# Altium integrated library Motorola RF and IF Radio Receiver Circuit.IntLib: 7 symbols
Pins are listed as number, name and electrical type; pins without a type are passive.

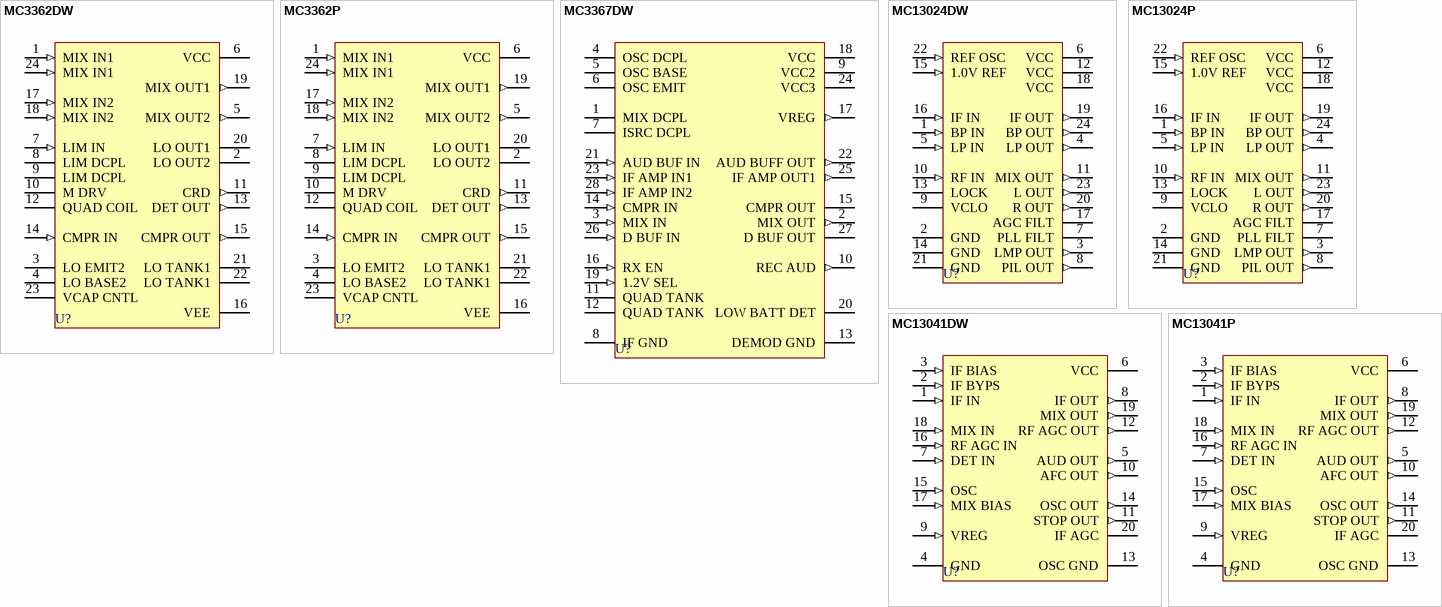
[diagram p0: symbols MC3362DW to MC13041P]

## MC3362DW
designator U?
Low-Power Dual Conversion FM Receiver; Published: 17-Jul-2002; LatestRevisionDate: 13-Apr-2006; LatestRevisionNote: IPC-7351 Footprint Added.; DatasheetVersion: 1988; PackageReference: 751E-02; Publisher: Altium Limited; PackageDescription: 24-Pin Small Outline Integrated Circuit 1.27 mm Pitch; Code_IPC: SOIC127P1047-24
footprint 751E-02_N (SOIC, 24-Leads, Body 15.4x7.5mm, Pitch 1.27mm, IPC Medium Density)
footprint 751E-02_L (SOIC, 24-Leads, Body 15.4x7.5mm, Pitch 1.27mm, IPC High Density)
footprint 751E-02_M (SOIC, 24-Leads, Body 15.4x7.5mm, Pitch 1.27mm, IPC Low Density)
3D model 751E-02 (24-Pin Small Outline Integrated Circuit 1.27 mm Pitch)
pins: 1 MIX IN1 (in), 2 LO OUT2 (oe), 3 LO EMIT2 (oe), 4 LO BASE2, 5 MIX OUT2 (out), 6 VCC (power), 7 LIM IN (in), 8 LIM DCPL, 9 LIM DCPL, 10 M DRV, 11 CRD (out), 12 QUAD COIL, 13 DET OUT (out), 14 CMPR IN (in), 15 CMPR OUT (out), 16 VEE (power), 17 MIX IN2 (in), 18 MIX IN2 (in), 19 MIX OUT1 (out), 20 LO OUT1 (oe), 21 LO TANK1, 22 LO TANK1, 23 VCAP CNTL, 24 MIX IN1 (in)

## MC3362P
designator U?
Low-Power Dual Conversion FM Receiver; Published: 17-Jul-2002; LatestRevisionDate: 06-Jun-2005; LatestRevisionNote: Stylized 3D Model Added.; DatasheetVersion: 1988; PackageReference: 724-02; Publisher: Altium Limited; PackageDescription: DIP; 24 Leads; Row Spacing 7.62 mm; Pitch 2.54 mm; Code_JEDEC: MS-001-AF
footprint 724-02 (DIP; 24 Leads; Row Spacing 7.62 mm; Pitch 2.54 mm)
3D model 724-03 (DIP; 24 Leads; Row Spacing 7.62 mm; Pitch 2.54 mm)
pins: 1 MIX IN1 (in), 2 LO OUT2 (oe), 3 LO EMIT2 (oe), 4 LO BASE2, 5 MIX OUT2 (out), 6 VCC (power), 7 LIM IN (in), 8 LIM DCPL, 9 LIM DCPL, 10 M DRV, 11 CRD (out), 12 QUAD COIL, 13 DET OUT (out), 14 CMPR IN (in), 15 CMPR OUT (out), 16 VEE (power), 17 MIX IN2 (in), 18 MIX IN2 (in), 19 MIX OUT1 (out), 20 LO OUT1 (oe), 21 LO TANK1, 22 LO TANK1, 23 VCAP CNTL, 24 MIX IN1 (in)

## MC3367DW
designator U?
Low-Voltage Single Conversion FM Receiver; Published: 17-Jul-2002; LatestRevisionDate: 13-Apr-2006; LatestRevisionNote: IPC-7351 Footprint Added.; DatasheetVersion: 1988; PackageReference: 751F-02; Publisher: Altium Limited; PackageDescription: 28-Pin Small Outline Integrated Circuit 1.27 mm Pitch
footprint 751F-02_N (SOIC, 28-Leads, Body 17.9x7.5mm, Pitch 1.27mm, IPC Medium Density)
footprint 751F-02_L (SOIC, 28-Leads, Body 17.9x7.5mm, Pitch 1.27mm, IPC High Density)
footprint 751F-02_M (SOIC, 28-Leads, Body 17.9x7.5mm, Pitch 1.27mm, IPC Low Density)
3D model 751F-02 (28-Pin Small Outline Integrated Circuit 1.27 mm Pitch)
pins: 1 MIX DCPL, 2 MIX OUT (out), 3 MIX IN (in), 4 OSC DCPL, 5 OSC BASE, 6 OSC EMIT, 7 ISRC DCPL, 8 IF GND (power), 9 VCC2 (power), 10 REC AUD (out), 11 QUAD TANK, 12 QUAD TANK, 13 DEMOD GND (power), 14 CMPR IN (in), 15 CMPR OUT (oc), 16 RX EN (in), 17 VREG (out), 18 VCC (power), 19 1.2V SEL (in), 20 LOW BATT DET (oc), 21 AUD BUF IN (in), 22 AUD BUFF OUT (out), 23 IF AMP IN1 (in), 24 VCC3 (power), 25 IF AMP OUT1 (out), 26 D BUF IN (in), 27 D BUF OUT (oc), 28 IF AMP IN2 (in)

## MC13024DW
designator U?
Low Voltage Motorola C-QUAM AM Stereo Receiver; Published: 17-Jul-2002; LatestRevisionDate: 13-Apr-2006; LatestRevisionNote: IPC-7351 Footprint Added.; DatasheetVersion: 1988; PackageReference: 751E-02; Publisher: Altium Limited; PackageDescription: 24-Pin Small Outline Integrated Circuit 1.27 mm Pitch; Code_IPC: SOIC127P1047-24
footprint 751E-02_N (SOIC, 24-Leads, Body 15.4x7.5mm, Pitch 1.27mm, IPC Medium Density)
footprint 751E-02_L (SOIC, 24-Leads, Body 15.4x7.5mm, Pitch 1.27mm, IPC High Density)
footprint 751E-02_M (SOIC, 24-Leads, Body 15.4x7.5mm, Pitch 1.27mm, IPC Low Density)
3D model 751E-02 (24-Pin Small Outline Integrated Circuit 1.27 mm Pitch)
pins: 1 BP IN (in), 2 GND (power), 3 LMP OUT (out), 4 LP OUT (out), 5 LP IN (in), 6 VCC (power), 7 PLL FILT, 8 PIL OUT (out), 9 VCLO, 10 RF IN (in), 11 MIX OUT (out), 12 VCC (power), 13 LOCK, 14 GND (power), 15 1.0V REF (in), 16 IF IN (in), 17 AGC FILT, 18 VCC (power), 19 IF OUT (out), 20 R OUT (out), 21 GND (power), 22 REF OSC (in), 23 L OUT (out), 24 BP OUT (out)

## MC13024P
designator U?
Low Voltage Motorola C-QUAM AM Stereo Receiver; Published: 17-Jul-2002; LatestRevisionDate: 06-Jun-2005; LatestRevisionNote: Stylized 3D Model Added.; DatasheetVersion: 1988; PackageReference: 724-03; Publisher: Altium Limited; PackageDescription: DIP; 24 Leads; Row Spacing 7.62 mm; Pitch 2.54 mm; Code_JEDEC: MS-001-AF
footprint 724-03 (DIP; 24 Leads; Row Spacing 7.62 mm; Pitch 2.54 mm)
3D model 724-03 (DIP; 24 Leads; Row Spacing 7.62 mm; Pitch 2.54 mm)
pins: 1 BP IN (in), 2 GND (power), 3 LMP OUT (out), 4 LP OUT (out), 5 LP IN (in), 6 VCC (power), 7 PLL FILT, 8 PIL OUT (out), 9 VCLO, 10 RF IN (in), 11 MIX OUT (out), 12 VCC (power), 13 LOCK, 14 GND (power), 15 1.0V REF (in), 16 IF IN (in), 17 AGC FILT, 18 VCC (power), 19 IF OUT (out), 20 R OUT (out), 21 GND (power), 22 REF OSC (in), 23 L OUT (out), 24 BP OUT (out)

## MC13041DW
designator U?
AM Receiver Subsystem; Published: 17-Jul-2002; LatestRevisionDate: 13-Apr-2006; LatestRevisionNote: IPC-7351 Footprint Added.; DatasheetVersion: 1988; PackageReference: 751D-03; Publisher: Altium Limited; PackageDescription: 20-Pin Small Outline Integrated Circuit 1.27 mm Pitch
footprint 751D-03_N (SOIC, 20-Leads, Body 12.8x7.5mm, Pitch 1.27mm, IPC Medium Density)
footprint 751D-03_L (SOIC, 20-Leads, Body 12.8x7.5mm, Pitch 1.27mm, IPC High Density)
footprint 751D-03_M (SOIC, 20-Leads, Body 12.8x7.5mm, Pitch 1.27mm, IPC Low Density)
3D model 751D-03 (20-Pin Small Outline Integrated Circuit 1.27 mm Pitch)
pins: 1 IF IN (in), 2 IF BYPS (in), 3 IF BIAS (in), 4 GND (power), 5 AUD OUT (out), 6 VCC (power), 7 DET IN (in), 8 IF OUT (out), 9 VREG (in), 10 AFC OUT (out), 11 STOP OUT (out), 12 RF AGC OUT (out), 13 OSC GND (power), 14 OSC OUT (out), 15 OSC (in), 16 RF AGC IN (in), 17 MIX BIAS (in), 18 MIX IN (in), 19 MIX OUT (out), 20 IF AGC

## MC13041P
designator U?
AM Receiver Subsystem; Published: 17-Jul-2002; LatestRevisionDate: 06-Jun-2005; LatestRevisionNote: Stylized 3D Model Added.; DatasheetVersion: 1988; PackageReference: 738-03; Publisher: Altium Limited; PackageDescription: DIP; 20 Leads; Row Spacing 7.62 mm; Pitch 2.54 mm; Code_JEDEC: MS-001-AD
footprint 738-03 (DIP; 20 Leads; Row Spacing 7.62 mm; Pitch 2.54 mm)
3D model 738-03 (DIP; 20 Leads; Row Spacing 7.62 mm; Pitch 2.54 mm)
pins: 1 IF IN (in), 2 IF BYPS (in), 3 IF BIAS (in), 4 GND (power), 5 AUD OUT (out), 6 VCC (power), 7 DET IN (in), 8 IF OUT (out), 9 VREG (in), 10 AFC OUT (out), 11 STOP OUT (out), 12 RF AGC OUT (out), 13 OSC GND (power), 14 OSC OUT (out), 15 OSC (in), 16 RF AGC IN (in), 17 MIX BIAS (in), 18 MIX IN (in), 19 MIX OUT (out), 20 IF AGC